# EAGLE library part SN65LVDS9637 (library ic-TI)
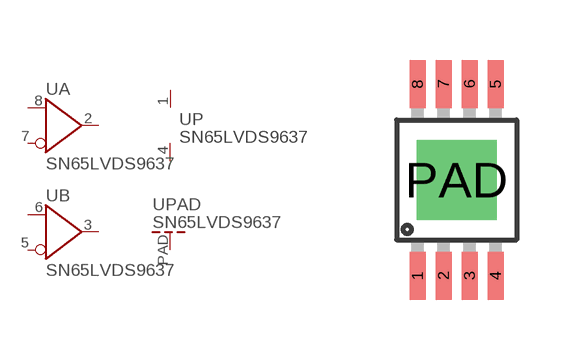
[diagram p18: symbol with the pads of MSOP8-PAD; footprint MSOP8-PAD]

Designator prefix U; gates A=LVDS_RECEIVER B=LVDS_RECEIVER P=LOGIC_PWR PAD=LOGIC_PWR_PAD

## SN65LVDS9637DGN  [MSOP8-PAD]
1  P:VCC
2  A:Y
3  B:Y
4  P:GND
5  B:B
6  B:A
7  A:B
8  A:A
PAD  PAD:PAD

## Footprint MSOP8-PAD (pad centres in mm)
smd 0.4 x 1.2: 1 -0.975,-2.4; 2 -0.325,-2.4; 3 0.325,-2.4; 4 0.975,-2.4; 5 0.975,2.4; 6 0.325,2.4; 7 -0.325,2.4; 8 -0.975,2.4
drill 1.3 pad 2 square: PAD 0,0